# Altium integrated library Renesas Microcontroller H8S.IntLib: 670 symbols (part 28 of 70)
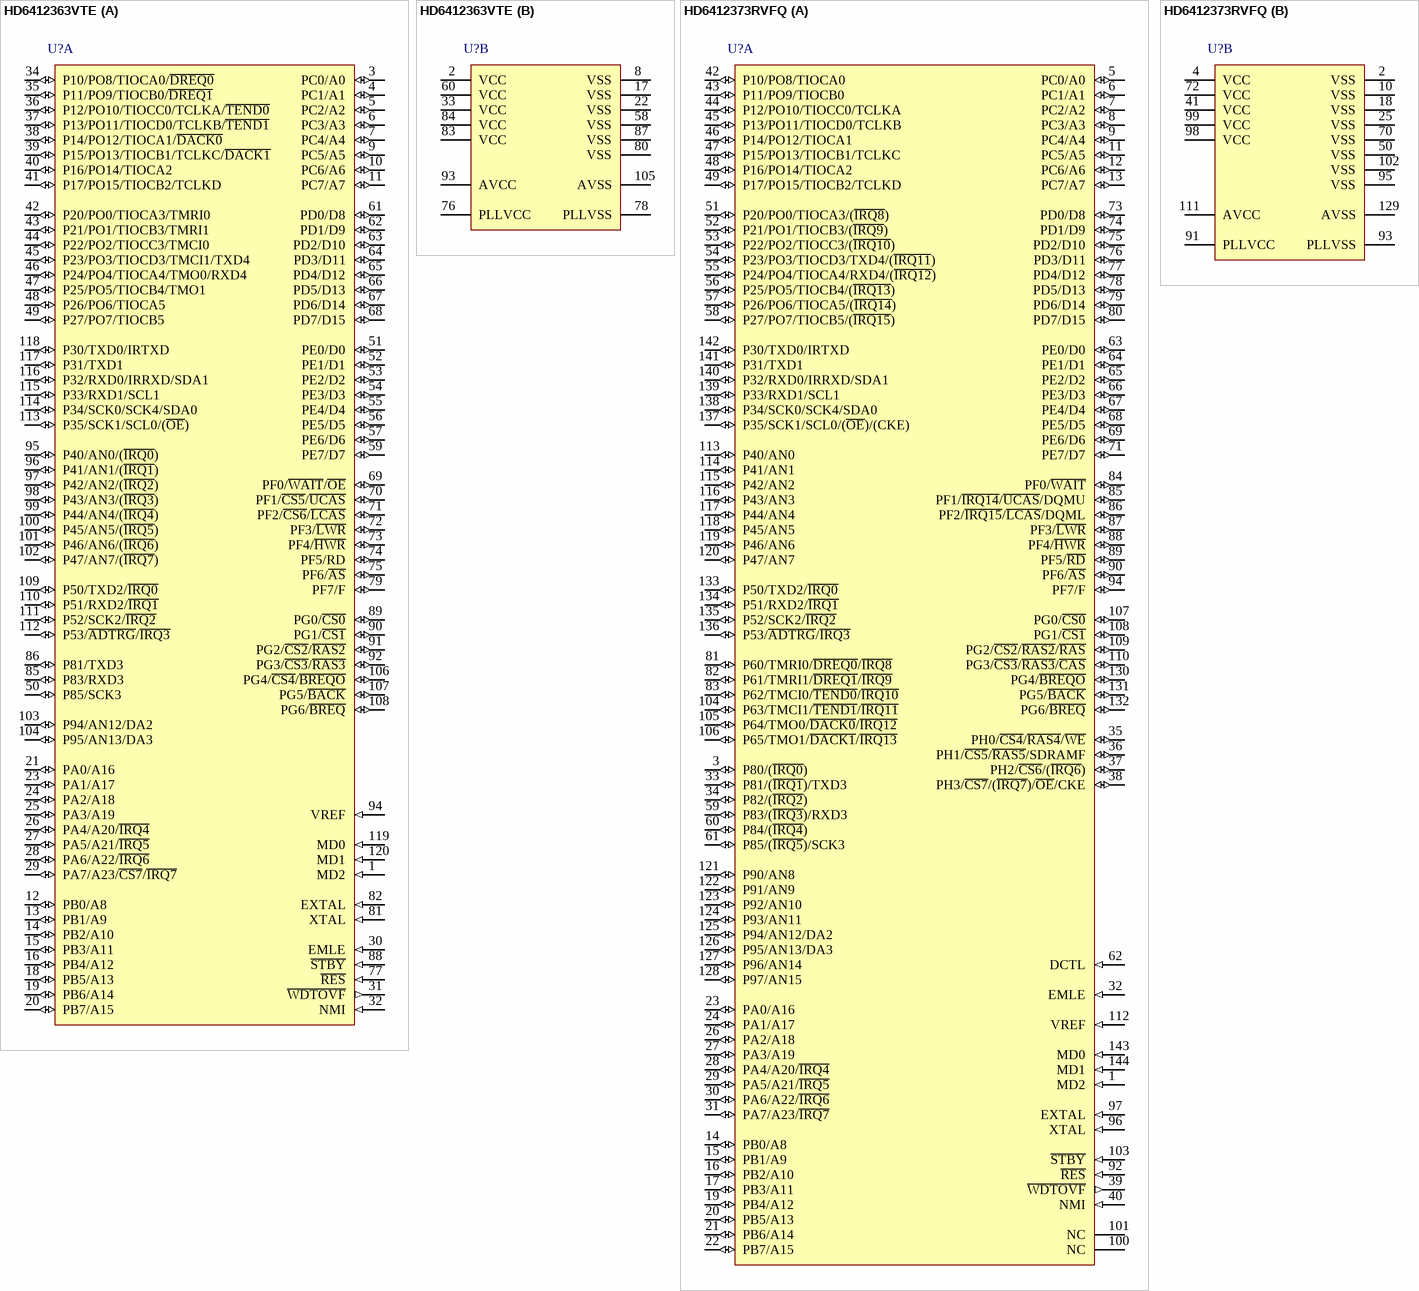
[diagram p358: symbols HD6412363VTE to HD6412373RVFQ]

## HD6412373RVFQ
designator U?
ROMless H8S/2300 Series, 2378R Group MCU, 16K RAM, FP-144H Pkg; Published: 28-Aug-2009; DatasheetVersion: Rev.7.00, Mar-2009; PackageVersion: Sep-2005; PackageReference: PLQP0144KC-A; Publisher: Altium Limited; PackageDescription: 144-Pin Plastic Low Profile QFP, 20 x 20 x 1.45 mm Body, 0.5 mm Pitch; Code_JEITA: P-LQFP144-20x20-0.50; Code_IPC: SQFP50P2200X2200-144; ComponentLink1Description: Manufacturer Link; ComponentLink1URL: http://sg.renesas.com/fmwk.jsp?cnt=h8s_family_landing.jsp&fp=/products/mpumcu/h8s_family/; ComponentLink2Description: Datasheet; ComponentLink2URL: http://documentation.renesas.com/eng/products/mpumcu/rej09b0109_h8s2378.pdf; ComponentLink3Description: Packaging Specification; ComponentLink3URL: http://sg.renesas.com/media/products/common_info/package/pdf/ic/code/plqp0144kc_a.pdf
footprint PLQP0144KC-A_N (Shrink QFP, 144-Leads, Body 20x20mm, Pitch 0.5mm, IPC Medium Density)
footprint PLQP0144KC-A_L (Shrink QFP, 144-Leads, Body 20x20mm, Pitch 0.5mm, IPC High Density)
footprint PLQP0144KC-A_M (Shrink QFP, 144-Leads, Body 20x20mm, Pitch 0.5mm, IPC Low Density)
part A pins: 1 MD2 (in), 3 P80/(~{IRQ0}) (io), 5 PC0/A0 (io), 6 PC1/A1 (io), 7 PC2/A2 (io), 8 PC3/A3 (io), 9 PC4/A4 (io), 11 PC5/A5 (io), 12 PC6/A6 (io), 13 PC7/A7 (io), 14 PB0/A8 (io), 15 PB1/A9 (io), 16 PB2/A10 (io), 17 PB3/A11 (io), 19 PB4/A12 (io), 20 PB5/A13 (io), 21 PB6/A14 (io), 22 PB7/A15 (io), 23 PA0/A16 (io), 24 PA1/A17 (io), 26 PA2/A18 (io), 27 PA3/A19 (io), 28 PA4/A20/~{IRQ4} (io), 29 PA5/A21/~{IRQ5} (io), 30 PA6/A22/~{IRQ6} (io), 31 PA7/A23/~{IRQ7} (io), 32 EMLE (in), 33 P81/(~{IRQ1})/TXD3 (io), 34 P82/(~{IRQ2}) (io), 35 PH0/~{CS4}/~{RAS4}/~{WE} (io), 36 PH1/~{CS5}/~{RAS5}/SDRAMF (io), 37 PH2/~{CS6}/(~{IRQ6}) (io), 38 PH3/~{CS7}/(~{IRQ7})/~{OE}/CKE (io), 39 ~{WDTOVF} (out), 40 NMI (in), 42 P10/PO8/TIOCA0 (io), 43 P11/PO9/TIOCB0 (io), 44 P12/PO10/TIOCC0/TCLKA (io), 45 P13/PO11/TIOCD0/TCLKB (io), 46 P14/PO12/TIOCA1 (io), 47 P15/PO13/TIOCB1/TCLKC (io), 48 P16/PO14/TIOCA2 (io), 49 P17/PO15/TIOCB2/TCLKD (io), 51 P20/PO0/TIOCA3/(~{IRQ8}) (io), 52 P21/PO1/TIOCB3/(~{IRQ9}) (io), 53 P22/PO2/TIOCC3/(~{IRQ10}) (io), 54 P23/PO3/TIOCD3/TXD4/(~{IRQ11}) (io), 55 P24/PO4/TIOCA4/RXD4/(~{IRQ12}) (io), 56 P25/PO5/TIOCB4/(~{IRQ13}) (io), 57 P26/PO6/TIOCA5/(~{IRQ14}) (io), 58 P27/PO7/TIOCB5/(~{IRQ15}) (io), 59 P83/(~{IRQ3})/RXD3 (io), 60 P84/(~{IRQ4}) (io), 61 P85/(~{IRQ5})/SCK3 (io), 62 DCTL (in), 63 PE0/D0 (io), 64 PE1/D1 (io), 65 PE2/D2 (io), 66 PE3/D3 (io), 67 PE4/D4 (io), 68 PE5/D5 (io), 69 PE6/D6 (io), 71 PE7/D7 (io), 73 PD0/D8 (io), 74 PD1/D9 (io), 75 PD2/D10 (io), 76 PD3/D11 (io), 77 PD4/D12 (io), 78 PD5/D13 (io), 79 PD6/D14 (io), 80 PD7/D15 (io), 81 P60/TMRI0/~{DREQ0}/~{IRQ8} (io), 82 P61/TMRI1/~{DREQ1}/~{IRQ9} (io), 83 P62/TMCI0/~{TEND0}/~{IRQ10} (io), 84 PF0/~{WAIT} (io), 85 PF1/~{IRQ14}/~{UCAS}/DQMU (io), 86 PF2/~{IRQ15}/~{LCAS}/DQML (io), 87 PF3/~{LWR} (io), 88 PF4/~{HWR} (io), 89 PF5/~{RD} (io), 90 PF6/~{AS} (io), 92 ~{RES} (in), 94 PF7/F (io), 96 XTAL (in), 97 EXTAL (in), 100 NC, 101 NC, 103 ~{STBY} (in), 104 P63/TMCI1/~{TEND1}/~{IRQ11} (io), 105 P64/TMO0/~{DACK0}/~{IRQ12} (io), 106 P65/TMO1/~{DACK1}/~{IRQ13} (io), 107 PG0/~{CS0} (io), 108 PG1/~{CS1} (io), 109 PG2/~{CS2}/~{RAS2}/~{RAS} (io), 110 PG3/~{CS3}/~{RAS3}/~{CAS} (io), 112 VREF (in), 113 P40/AN0 (io), 114 P41/AN1 (io), 115 P42/AN2 (io), 116 P43/AN3 (io), 117 P44/AN4 (io), 118 P45/AN5 (io), 119 P46/AN6 (io), 120 P47/AN7 (io), 121 P90/AN8 (io), 122 P91/AN9 (io), 123 P92/AN10 (io), 124 P93/AN11 (io), 125 P94/AN12/DA2 (io), 126 P95/AN13/DA3 (io), 127 P96/AN14 (io), 128 P97/AN15 (io), 130 PG4/~{BREQO} (io), 131 PG5/~{BACK} (io), 132 PG6/~{BREQ} (io), 133 P50/TXD2/~{IRQ0} (io), 134 P51/RXD2/~{IRQ1} (io), 135 P52/SCK2/~{IRQ2} (io), 136 P53/~{ADTRG}/~{IRQ3} (io), 137 P35/SCK1/SCL0/(~{OE})/(CKE) (io), 138 P34/SCK0/SCK4/SDA0 (io), 139 P33/RXD1/SCL1 (io), 140 P32/RXD0/IRRXD/SDA1 (io), 141 P31/TXD1 (io), 142 P30/TXD0/IRTXD (io), 143 MD0 (in), 144 MD1 (in)
part B pins: 2 VSS (power), 4 VCC (power), 10 VSS (power), 18 VSS (power), 25 VSS (power), 41 VCC (power), 50 VSS (power), 70 VSS (power), 72 VCC (power), 91 PLLVCC (power), 93 PLLVSS (power), 95 VSS (power), 98 VCC (power), 99 VCC (power), 102 VSS (power), 111 AVCC (power), 129 AVSS (power)

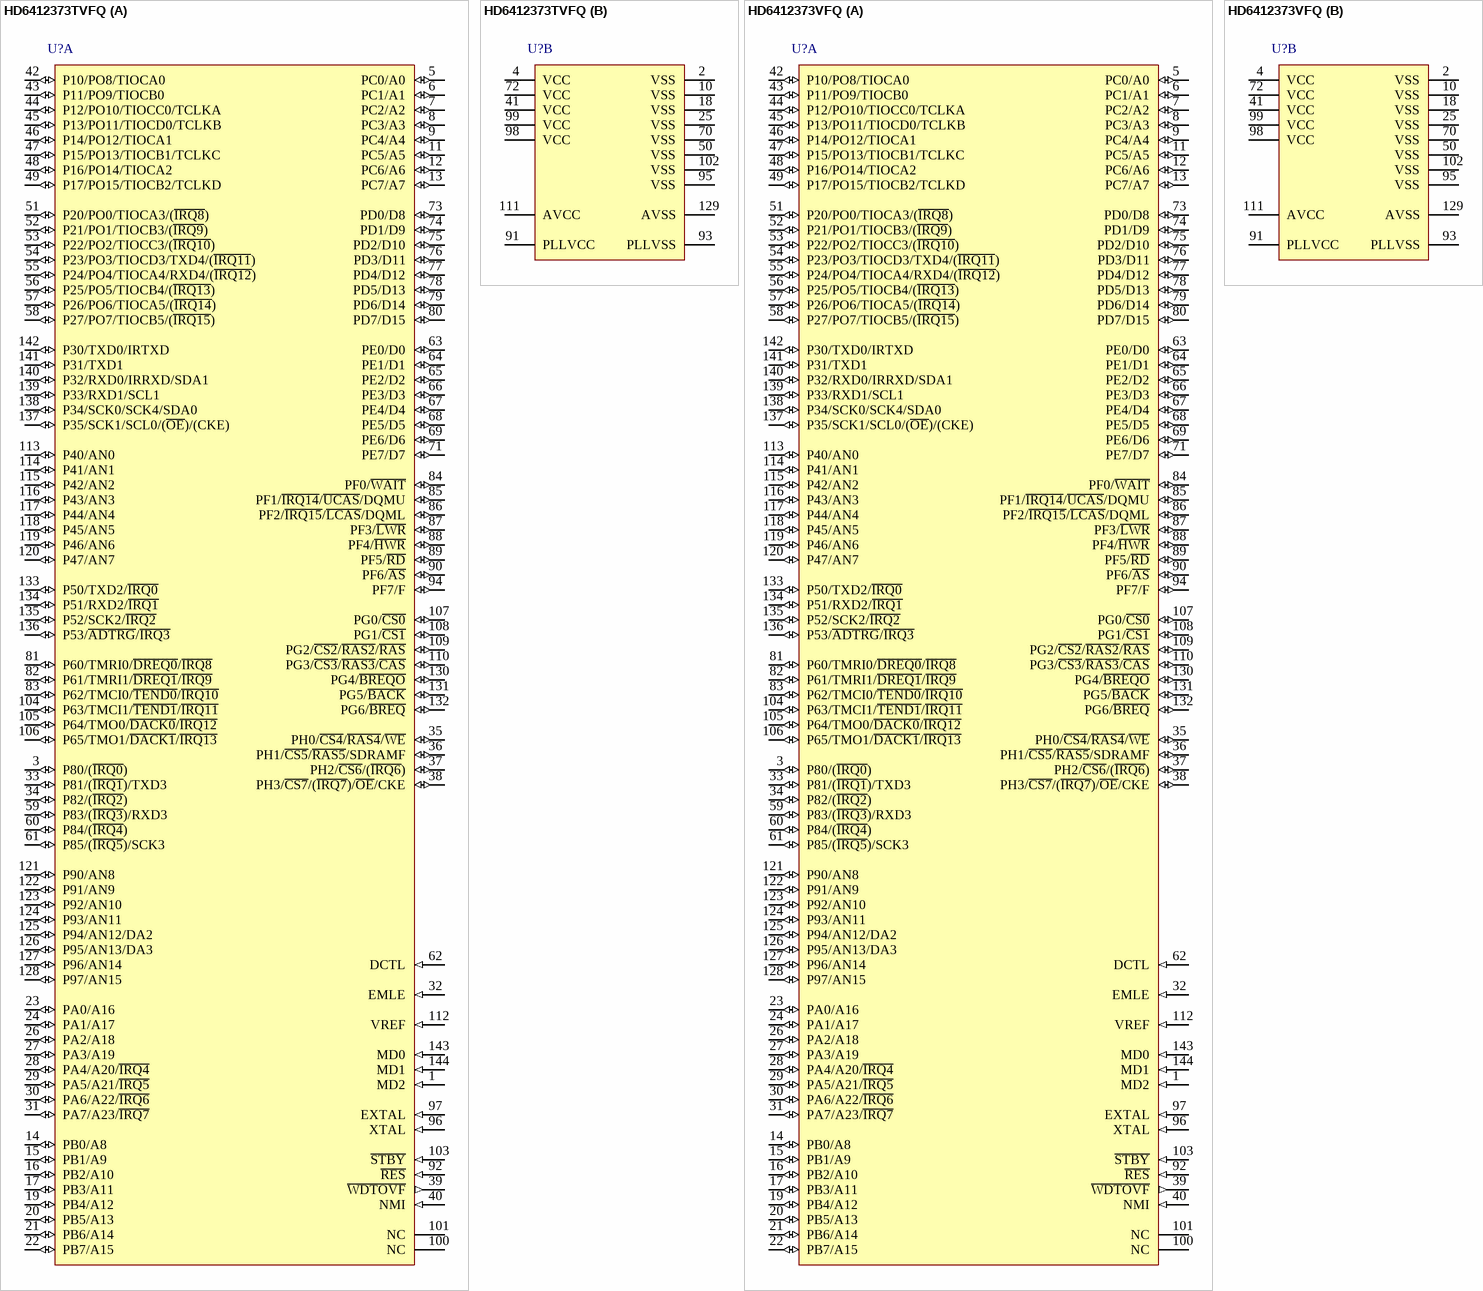
[diagram p98: symbols HD6412373TVFQ to HD6412373VFQ]

## HD6412373TVFQ
designator U?
ROMless H8S/2300 Series, 2378R Group MCU, 16K RAM, FP-144H Pkg; Published: 28-Aug-2009; DatasheetVersion: Rev.7.00, Mar-2009; PackageVersion: Sep-2005; PackageReference: PLQP0144KC-A; Publisher: Altium Limited; PackageDescription: 144-Pin Plastic Low Profile QFP, 20 x 20 x 1.45 mm Body, 0.5 mm Pitch; Code_JEITA: P-LQFP144-20x20-0.50; Code_IPC: SQFP50P2200X2200-144; ComponentLink1Description: Manufacturer Link; ComponentLink1URL: http://sg.renesas.com/fmwk.jsp?cnt=h8s_family_landing.jsp&fp=/products/mpumcu/h8s_family/; ComponentLink2Description: Datasheet; ComponentLink2URL: http://documentation.renesas.com/eng/products/mpumcu/rej09b0109_h8s2378.pdf; ComponentLink3Description: Packaging Specification; ComponentLink3URL: http://sg.renesas.com/media/products/common_info/package/pdf/ic/code/plqp0144kc_a.pdf
footprint PLQP0144KC-A_N (Shrink QFP, 144-Leads, Body 20x20mm, Pitch 0.5mm, IPC Medium Density)
footprint PLQP0144KC-A_L (Shrink QFP, 144-Leads, Body 20x20mm, Pitch 0.5mm, IPC High Density)
footprint PLQP0144KC-A_M (Shrink QFP, 144-Leads, Body 20x20mm, Pitch 0.5mm, IPC Low Density)
part A pins: 1 MD2 (in), 3 P80/(~{IRQ0}) (io), 5 PC0/A0 (io), 6 PC1/A1 (io), 7 PC2/A2 (io), 8 PC3/A3 (io), 9 PC4/A4 (io), 11 PC5/A5 (io), 12 PC6/A6 (io), 13 PC7/A7 (io), 14 PB0/A8 (io), 15 PB1/A9 (io), 16 PB2/A10 (io), 17 PB3/A11 (io), 19 PB4/A12 (io), 20 PB5/A13 (io), 21 PB6/A14 (io), 22 PB7/A15 (io), 23 PA0/A16 (io), 24 PA1/A17 (io), 26 PA2/A18 (io), 27 PA3/A19 (io), 28 PA4/A20/~{IRQ4} (io), 29 PA5/A21/~{IRQ5} (io), 30 PA6/A22/~{IRQ6} (io), 31 PA7/A23/~{IRQ7} (io), 32 EMLE (in), 33 P81/(~{IRQ1})/TXD3 (io), 34 P82/(~{IRQ2}) (io), 35 PH0/~{CS4}/~{RAS4}/~{WE} (io), 36 PH1/~{CS5}/~{RAS5}/SDRAMF (io), 37 PH2/~{CS6}/(~{IRQ6}) (io), 38 PH3/~{CS7}/(~{IRQ7})/~{OE}/CKE (io), 39 ~{WDTOVF} (out), 40 NMI (in), 42 P10/PO8/TIOCA0 (io), 43 P11/PO9/TIOCB0 (io), 44 P12/PO10/TIOCC0/TCLKA (io), 45 P13/PO11/TIOCD0/TCLKB (io), 46 P14/PO12/TIOCA1 (io), 47 P15/PO13/TIOCB1/TCLKC (io), 48 P16/PO14/TIOCA2 (io), 49 P17/PO15/TIOCB2/TCLKD (io), 51 P20/PO0/TIOCA3/(~{IRQ8}) (io), 52 P21/PO1/TIOCB3/(~{IRQ9}) (io), 53 P22/PO2/TIOCC3/(~{IRQ10}) (io), 54 P23/PO3/TIOCD3/TXD4/(~{IRQ11}) (io), 55 P24/PO4/TIOCA4/RXD4/(~{IRQ12}) (io), 56 P25/PO5/TIOCB4/(~{IRQ13}) (io), 57 P26/PO6/TIOCA5/(~{IRQ14}) (io), 58 P27/PO7/TIOCB5/(~{IRQ15}) (io), 59 P83/(~{IRQ3})/RXD3 (io), 60 P84/(~{IRQ4}) (io), 61 P85/(~{IRQ5})/SCK3 (io), 62 DCTL (in), 63 PE0/D0 (io), 64 PE1/D1 (io), 65 PE2/D2 (io), 66 PE3/D3 (io), 67 PE4/D4 (io), 68 PE5/D5 (io), 69 PE6/D6 (io), 71 PE7/D7 (io), 73 PD0/D8 (io), 74 PD1/D9 (io), 75 PD2/D10 (io), 76 PD3/D11 (io), 77 PD4/D12 (io), 78 PD5/D13 (io), 79 PD6/D14 (io), 80 PD7/D15 (io), 81 P60/TMRI0/~{DREQ0}/~{IRQ8} (io), 82 P61/TMRI1/~{DREQ1}/~{IRQ9} (io), 83 P62/TMCI0/~{TEND0}/~{IRQ10} (io), 84 PF0/~{WAIT} (io), 85 PF1/~{IRQ14}/~{UCAS}/DQMU (io), 86 PF2/~{IRQ15}/~{LCAS}/DQML (io), 87 PF3/~{LWR} (io), 88 PF4/~{HWR} (io), 89 PF5/~{RD} (io), 90 PF6/~{AS} (io), 92 ~{RES} (in), 94 PF7/F (io), 96 XTAL (in), 97 EXTAL (in), 100 NC, 101 NC, 103 ~{STBY} (in), 104 P63/TMCI1/~{TEND1}/~{IRQ11} (io), 105 P64/TMO0/~{DACK0}/~{IRQ12} (io), 106 P65/TMO1/~{DACK1}/~{IRQ13} (io), 107 PG0/~{CS0} (io), 108 PG1/~{CS1} (io), 109 PG2/~{CS2}/~{RAS2}/~{RAS} (io), 110 PG3/~{CS3}/~{RAS3}/~{CAS} (io), 112 VREF (in), 113 P40/AN0 (io), 114 P41/AN1 (io), 115 P42/AN2 (io), 116 P43/AN3 (io), 117 P44/AN4 (io), 118 P45/AN5 (io), 119 P46/AN6 (io), 120 P47/AN7 (io), 121 P90/AN8 (io), 122 P91/AN9 (io), 123 P92/AN10 (io), 124 P93/AN11 (io), 125 P94/AN12/DA2 (io), 126 P95/AN13/DA3 (io), 127 P96/AN14 (io), 128 P97/AN15 (io), 130 PG4/~{BREQO} (io), 131 PG5/~{BACK} (io), 132 PG6/~{BREQ} (io), 133 P50/TXD2/~{IRQ0} (io), 134 P51/RXD2/~{IRQ1} (io), 135 P52/SCK2/~{IRQ2} (io), 136 P53/~{ADTRG}/~{IRQ3} (io), 137 P35/SCK1/SCL0/(~{OE})/(CKE) (io), 138 P34/SCK0/SCK4/SDA0 (io), 139 P33/RXD1/SCL1 (io), 140 P32/RXD0/IRRXD/SDA1 (io), 141 P31/TXD1 (io), 142 P30/TXD0/IRTXD (io), 143 MD0 (in), 144 MD1 (in)
part B pins: 2 VSS (power), 4 VCC (power), 10 VSS (power), 18 VSS (power), 25 VSS (power), 41 VCC (power), 50 VSS (power), 70 VSS (power), 72 VCC (power), 91 PLLVCC (power), 93 PLLVSS (power), 95 VSS (power), 98 VCC (power), 99 VCC (power), 102 VSS (power), 111 AVCC (power), 129 AVSS (power)

## HD6412373VFQ
designator U?
ROMless H8S/2300 Series, 2378 Group MCU, 16K RAM, FP-144H Pkg; Published: 28-Aug-2009; DatasheetVersion: Rev.7.00, Mar-2009; PackageVersion: Sep-2005; PackageReference: PLQP0144KC-A; Publisher: Altium Limited; PackageDescription: 144-Pin Plastic Low Profile QFP, 20 x 20 x 1.45 mm Body, 0.5 mm Pitch; Code_JEITA: P-LQFP144-20x20-0.50; Code_IPC: SQFP50P2200X2200-144; ComponentLink1Description: Manufacturer Link; ComponentLink1URL: http://sg.renesas.com/fmwk.jsp?cnt=h8s_family_landing.jsp&fp=/products/mpumcu/h8s_family/; ComponentLink2Description: Datasheet; ComponentLink2URL: http://documentation.renesas.com/eng/products/mpumcu/rej09b0109_h8s2378.pdf; ComponentLink3Description: Packaging Specification; ComponentLink3URL: http://sg.renesas.com/media/products/common_info/package/pdf/ic/code/plqp0144kc_a.pdf
footprint PLQP0144KC-A_N (Shrink QFP, 144-Leads, Body 20x20mm, Pitch 0.5mm, IPC Medium Density)
footprint PLQP0144KC-A_L (Shrink QFP, 144-Leads, Body 20x20mm, Pitch 0.5mm, IPC High Density)
footprint PLQP0144KC-A_M (Shrink QFP, 144-Leads, Body 20x20mm, Pitch 0.5mm, IPC Low Density)
part A pins: 1 MD2 (in), 3 P80/(~{IRQ0}) (io), 5 PC0/A0 (io), 6 PC1/A1 (io), 7 PC2/A2 (io), 8 PC3/A3 (io), 9 PC4/A4 (io), 11 PC5/A5 (io), 12 PC6/A6 (io), 13 PC7/A7 (io), 14 PB0/A8 (io), 15 PB1/A9 (io), 16 PB2/A10 (io), 17 PB3/A11 (io), 19 PB4/A12 (io), 20 PB5/A13 (io), 21 PB6/A14 (io), 22 PB7/A15 (io), 23 PA0/A16 (io), 24 PA1/A17 (io), 26 PA2/A18 (io), 27 PA3/A19 (io), 28 PA4/A20/~{IRQ4} (io), 29 PA5/A21/~{IRQ5} (io), 30 PA6/A22/~{IRQ6} (io), 31 PA7/A23/~{IRQ7} (io), 32 EMLE (in), 33 P81/(~{IRQ1})/TXD3 (io), 34 P82/(~{IRQ2}) (io), 35 PH0/~{CS4}/~{RAS4}/~{WE} (io), 36 PH1/~{CS5}/~{RAS5}/SDRAMF (io), 37 PH2/~{CS6}/(~{IRQ6}) (io), 38 PH3/~{CS7}/(~{IRQ7})/~{OE}/CKE (io), 39 ~{WDTOVF} (out), 40 NMI (in), 42 P10/PO8/TIOCA0 (io), 43 P11/PO9/TIOCB0 (io), 44 P12/PO10/TIOCC0/TCLKA (io), 45 P13/PO11/TIOCD0/TCLKB (io), 46 P14/PO12/TIOCA1 (io), 47 P15/PO13/TIOCB1/TCLKC (io), 48 P16/PO14/TIOCA2 (io), 49 P17/PO15/TIOCB2/TCLKD (io), 51 P20/PO0/TIOCA3/(~{IRQ8}) (io), 52 P21/PO1/TIOCB3/(~{IRQ9}) (io), 53 P22/PO2/TIOCC3/(~{IRQ10}) (io), 54 P23/PO3/TIOCD3/TXD4/(~{IRQ11}) (io), 55 P24/PO4/TIOCA4/RXD4/(~{IRQ12}) (io), 56 P25/PO5/TIOCB4/(~{IRQ13}) (io), 57 P26/PO6/TIOCA5/(~{IRQ14}) (io), 58 P27/PO7/TIOCB5/(~{IRQ15}) (io), 59 P83/(~{IRQ3})/RXD3 (io), 60 P84/(~{IRQ4}) (io), 61 P85/(~{IRQ5})/SCK3 (io), 62 DCTL (in), 63 PE0/D0 (io), 64 PE1/D1 (io), 65 PE2/D2 (io), 66 PE3/D3 (io), 67 PE4/D4 (io), 68 PE5/D5 (io), 69 PE6/D6 (io), 71 PE7/D7 (io), 73 PD0/D8 (io), 74 PD1/D9 (io), 75 PD2/D10 (io), 76 PD3/D11 (io), 77 PD4/D12 (io), 78 PD5/D13 (io), 79 PD6/D14 (io), 80 PD7/D15 (io), 81 P60/TMRI0/~{DREQ0}/~{IRQ8} (io), 82 P61/TMRI1/~{DREQ1}/~{IRQ9} (io), 83 P62/TMCI0/~{TEND0}/~{IRQ10} (io), 84 PF0/~{WAIT} (io), 85 PF1/~{IRQ14}/~{UCAS}/DQMU (io), 86 PF2/~{IRQ15}/~{LCAS}/DQML (io), 87 PF3/~{LWR} (io), 88 PF4/~{HWR} (io), 89 PF5/~{RD} (io), 90 PF6/~{AS} (io), 92 ~{RES} (in), 94 PF7/F (io), 96 XTAL (in), 97 EXTAL (in), 100 NC, 101 NC, 103 ~{STBY} (in), 104 P63/TMCI1/~{TEND1}/~{IRQ11} (io), 105 P64/TMO0/~{DACK0}/~{IRQ12} (io), 106 P65/TMO1/~{DACK1}/~{IRQ13} (io), 107 PG0/~{CS0} (io), 108 PG1/~{CS1} (io), 109 PG2/~{CS2}/~{RAS2}/~{RAS} (io), 110 PG3/~{CS3}/~{RAS3}/~{CAS} (io), 112 VREF (in), 113 P40/AN0 (io), 114 P41/AN1 (io), 115 P42/AN2 (io), 116 P43/AN3 (io), 117 P44/AN4 (io), 118 P45/AN5 (io), 119 P46/AN6 (io), 120 P47/AN7 (io), 121 P90/AN8 (io), 122 P91/AN9 (io), 123 P92/AN10 (io), 124 P93/AN11 (io), 125 P94/AN12/DA2 (io), 126 P95/AN13/DA3 (io), 127 P96/AN14 (io), 128 P97/AN15 (io), 130 PG4/~{BREQO} (io), 131 PG5/~{BACK} (io), 132 PG6/~{BREQ} (io), 133 P50/TXD2/~{IRQ0} (io), 134 P51/RXD2/~{IRQ1} (io), 135 P52/SCK2/~{IRQ2} (io), 136 P53/~{ADTRG}/~{IRQ3} (io), 137 P35/SCK1/SCL0/(~{OE})/(CKE) (io), 138 P34/SCK0/SCK4/SDA0 (io), 139 P33/RXD1/SCL1 (io), 140 P32/RXD0/IRRXD/SDA1 (io), 141 P31/TXD1 (io), 142 P30/TXD0/IRTXD (io), 143 MD0 (in), 144 MD1 (in)
part B pins: 2 VSS (power), 4 VCC (power), 10 VSS (power), 18 VSS (power), 25 VSS (power), 41 VCC (power), 50 VSS (power), 70 VSS (power), 72 VCC (power), 91 PLLVCC (power), 93 PLLVSS (power), 95 VSS (power), 98 VCC (power), 99 VCC (power), 102 VSS (power), 111 AVCC (power), 129 AVSS (power)

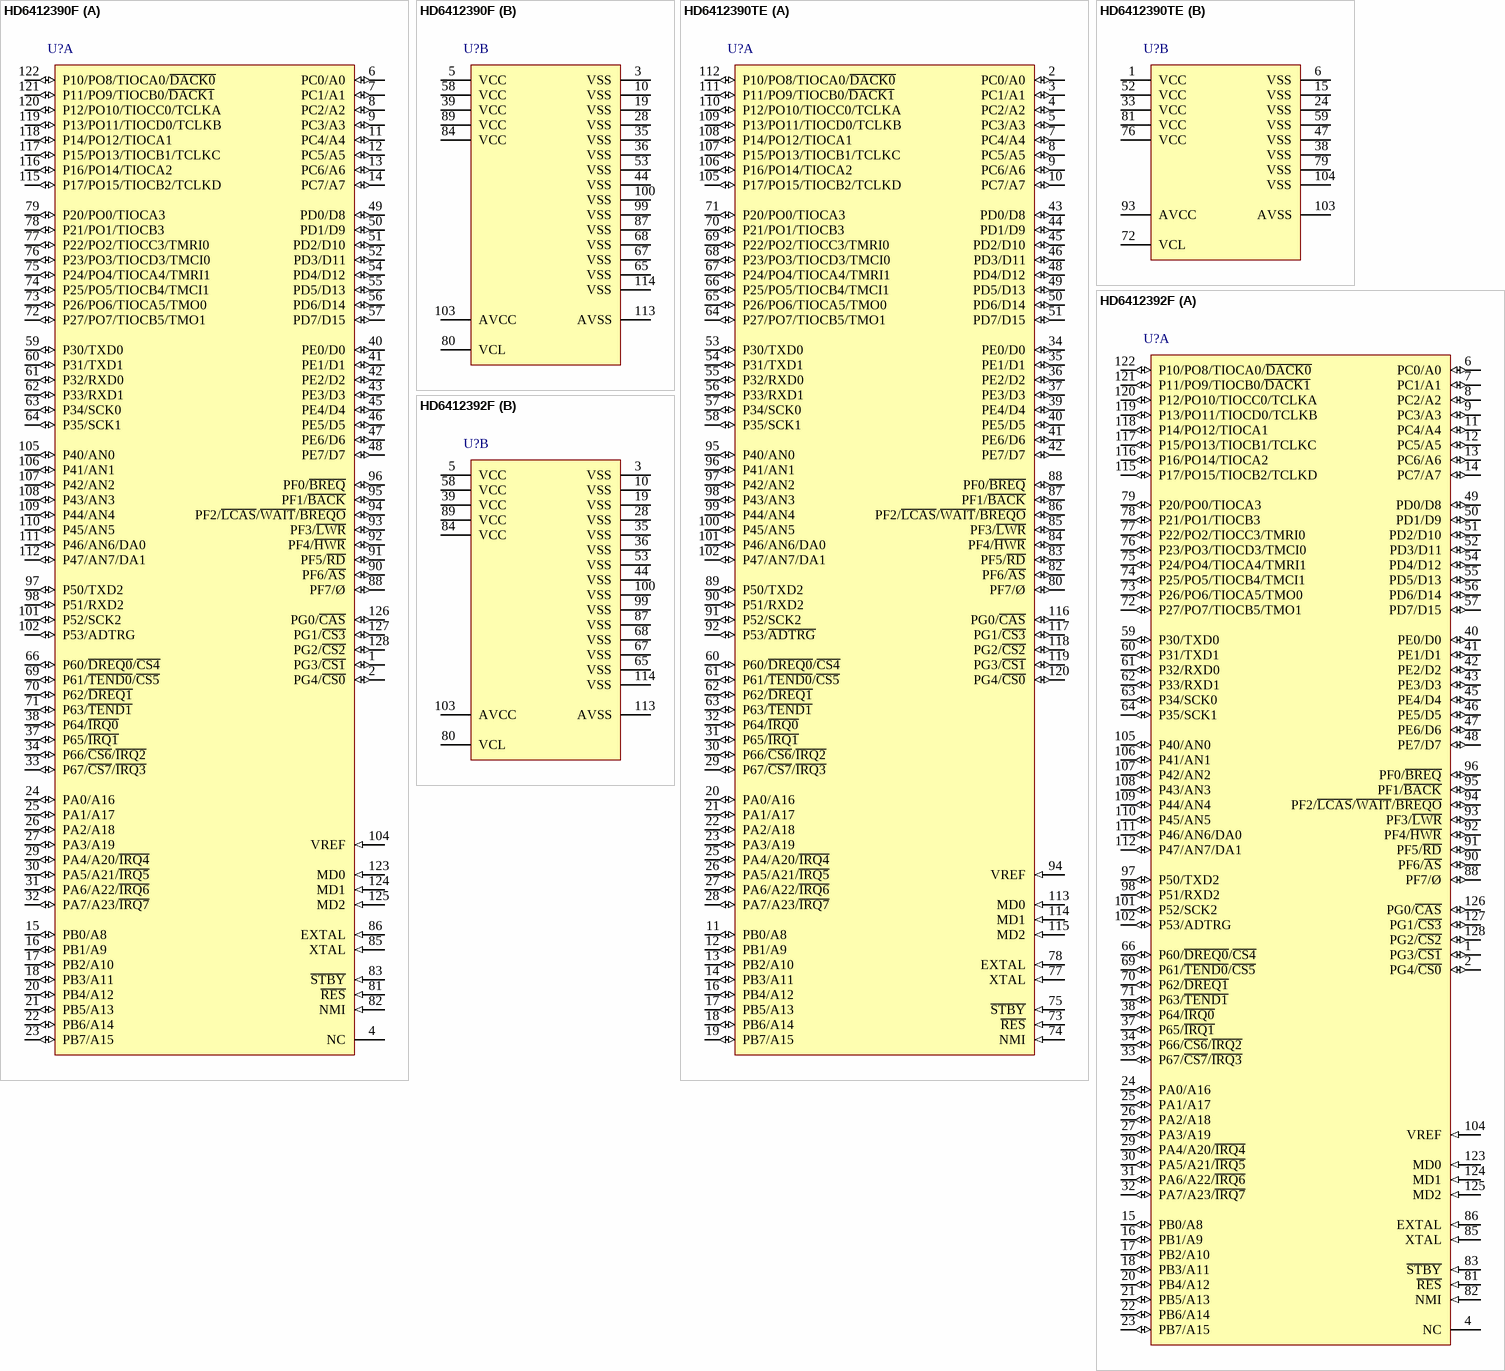
[diagram p99: symbols HD6412390F to HD6412392F]